# EAGLE library part XPT2046 (library Deegou_IC)
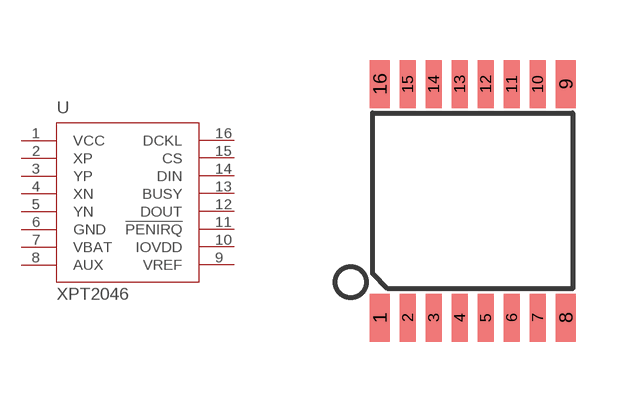
[diagram p50: symbol with the pads of TSSOP16; footprint TSSOP16]

Designator prefix U

## XPT2046  [TSSOP16]
1  VCC
2  XP
3  YP
4  XN
5  YN
6  GND
7  VBAT
8  AUX
9  VREF
10  IOVDD
11  !PENIRQ
12  DOUT
13  BUSY
14  DIN
15  CS
16  DCKL

## Footprint TSSOP16 (pad centres in mm)
TSOP16 thin small outline package
smd 0.5 x 1.2: 1 -2.325,-2.925; 8 2.325,-2.925; 9 2.325,2.925; 16 -2.325,2.925
smd 0.4 x 1.2: 2 -1.625,-2.925; 3 -0.975,-2.925; 4 -0.325,-2.925; 5 0.325,-2.925; 6 0.975,-2.925; 7 1.625,-2.925; 10 1.625,2.925; 11 0.975,2.925; 12 0.325,2.925; 13 -0.325,2.925; 14 -0.975,2.925; 15 -1.625,2.925